# Altium schematic symbol library Driver_LED.SchLib: 84 symbols (part 2 of 2)
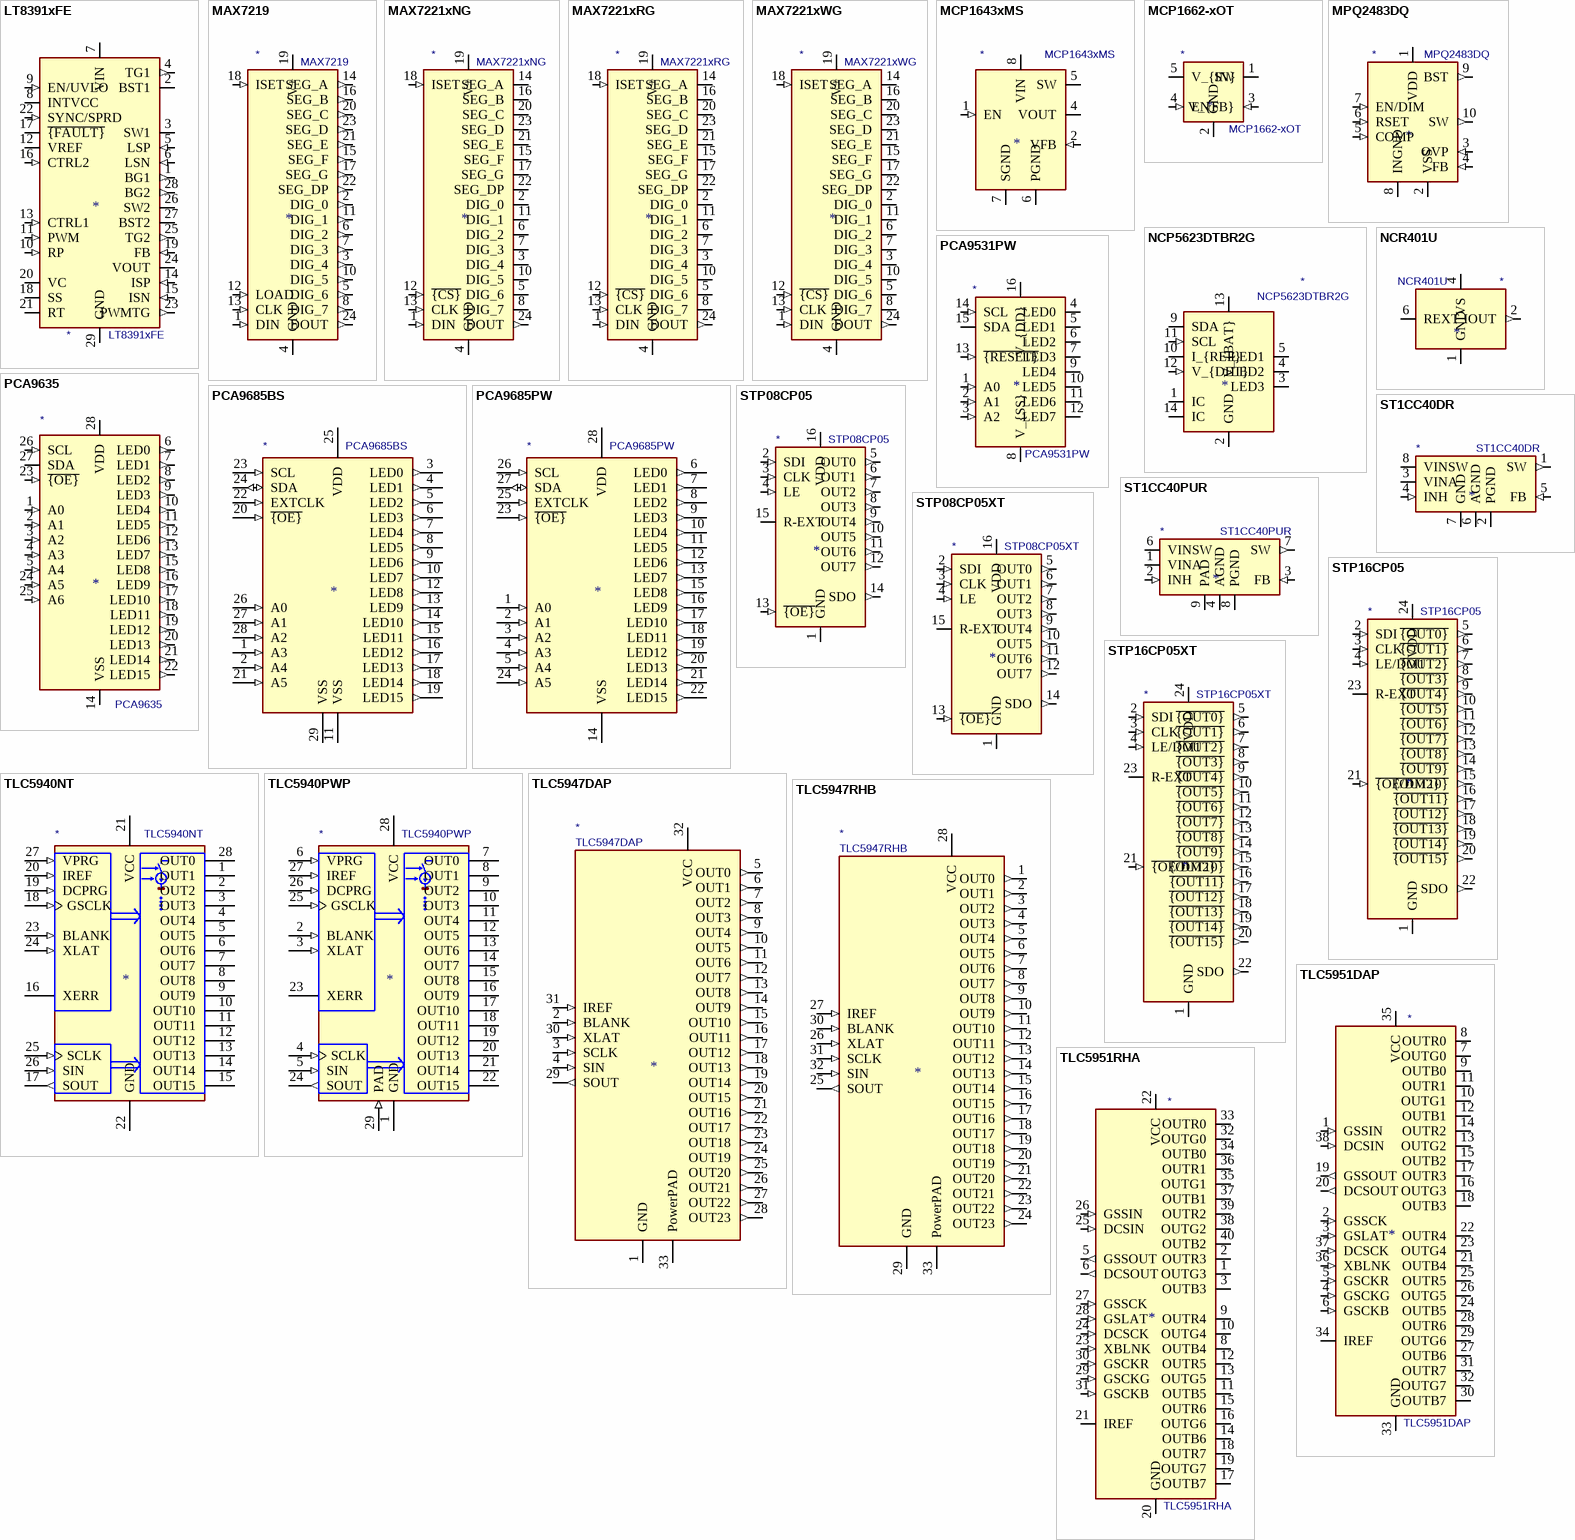
[diagram p4: symbols LT8391xFE to TLC5951RHA]

## TLC5951RHA
designator *  value TLC5951RHA
ki_keywords: led driver; ki_description: 24-Channel, 12-Bit PWM LED Driver With 7-Bit Dot Correction and 3-Group, 8-Bit Global Brightness Control, Texas S-PVQFN-N40; ki_fp_filters: Texas*S*PVQFN*; Footprint: Package_DFN_QFN:Texas_S-PVQFN-N40_EP4.15x4.15mm_ThermalVias; Supplier: http://www.ti.com/lit/ds/symlink/tlc5951.pdf
footprint Texas_S-PVQFN-N40_EP4.15x4.15mm_ThermalVias
pins: 1 OUTG3 (oc), 2 OUTR3 (oc), 3 OUTB3 (oc), 4 NC (in) hidden, 5 GSSOUT (out), 6 DCSOUT (out), 7 NC (in) hidden, 8 OUTB4 (oc), 9 OUTR4 (oc), 10 OUTG4 (oc), 11 OUTB5 (oc), 12 OUTR5 (oc), 13 OUTG5 (oc), 14 OUTB6 (oc), 15 OUTR6 (oc), 16 OUTG6 (oc), 17 OUTB7 (oc), 18 OUTR7 (oc), 19 OUTG7 (oc), 20 GND (power), 21 IREF, 22 VCC (power), 23 XBLNK (in), 24 DCSCK (in), 25 DCSIN (in), 26 GSSIN (in), 27 GSSCK (in), 28 GSLAT (in), 29 GSCKG (in), 30 GSCKR (in), 31 GSCKB (in), 32 OUTG0 (oc), 33 OUTR0 (oc), 34 OUTB0 (oc), 35 OUTG1 (oc), 36 OUTR1 (oc), 37 OUTB1 (oc), 38 OUTG2 (oc), 39 OUTR2 (oc), 40 OUTB2 (oc), 41 GND hidden

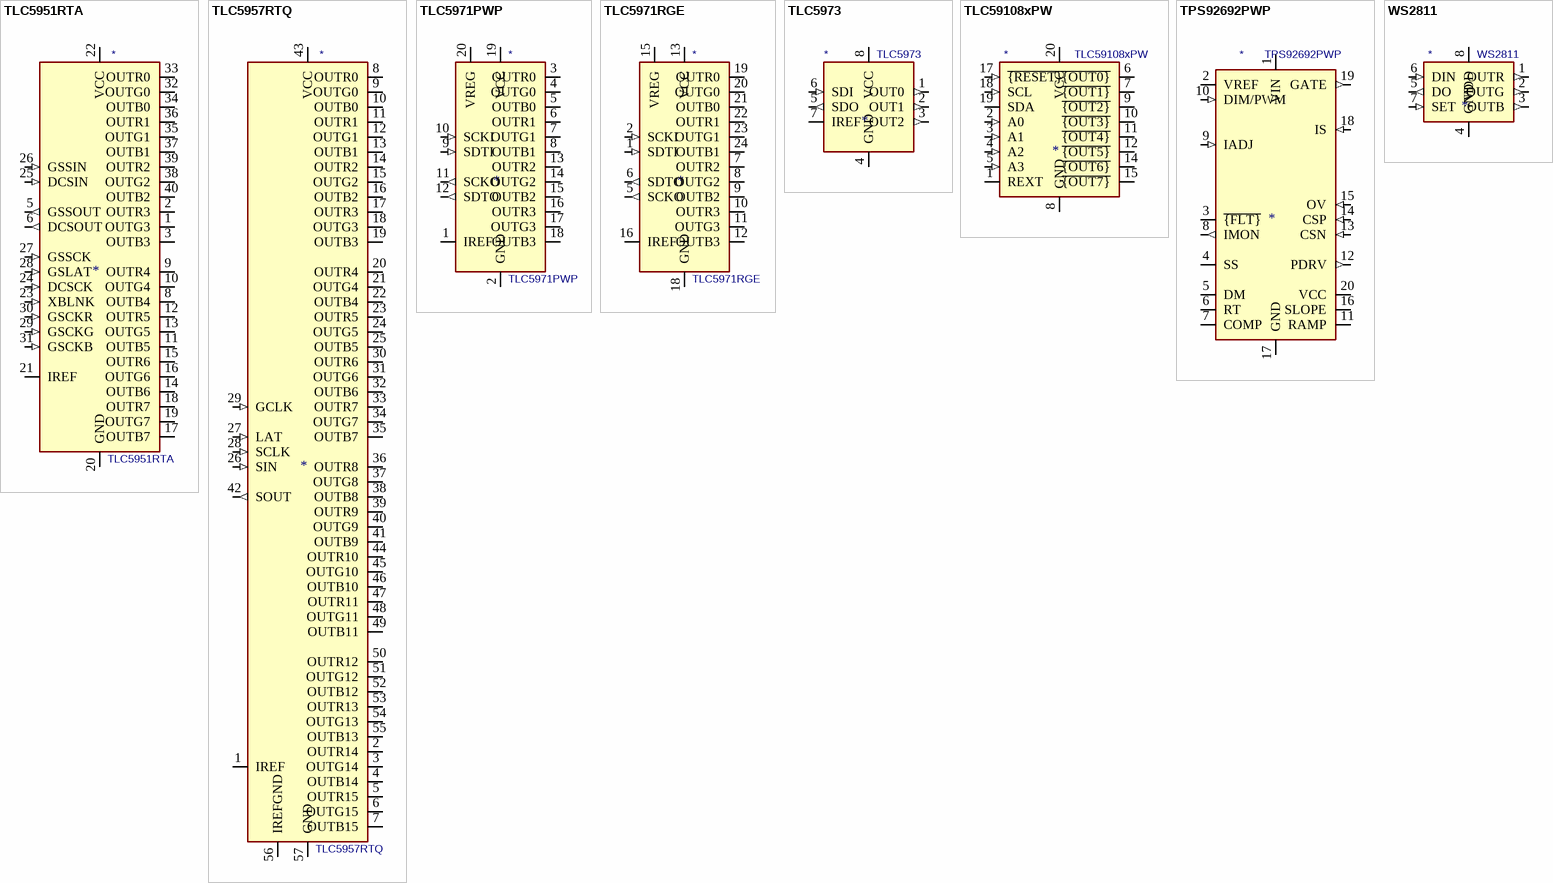
[diagram p3: symbols TLC5951RTA to WS2811]

## TLC5951RTA
designator *  value TLC5951RTA
ki_keywords: led driver; ki_description: 24-Channel, 12-Bit PWM LED Driver With 7-Bit Dot Correction and 3-Group, 8-Bit Global Brightness Control, Texas S-PVQFN-N40; ki_fp_filters: Texas*S*PVQFN*; Footprint: Package_DFN_QFN:Texas_S-PVQFN-N40_EP4.15x4.15mm_ThermalVias; Supplier: http://www.ti.com/lit/ds/symlink/tlc5951.pdf
footprint Texas_S-PVQFN-N40_EP4.15x4.15mm_ThermalVias
pins: 1 OUTG3 (oc), 2 OUTR3 (oc), 3 OUTB3 (oc), 4 NC (in) hidden, 5 GSSOUT (out), 6 DCSOUT (out), 7 NC (in) hidden, 8 OUTB4 (oc), 9 OUTR4 (oc), 10 OUTG4 (oc), 11 OUTB5 (oc), 12 OUTR5 (oc), 13 OUTG5 (oc), 14 OUTB6 (oc), 15 OUTR6 (oc), 16 OUTG6 (oc), 17 OUTB7 (oc), 18 OUTR7 (oc), 19 OUTG7 (oc), 20 GND (power), 21 IREF, 22 VCC (power), 23 XBLNK (in), 24 DCSCK (in), 25 DCSIN (in), 26 GSSIN (in), 27 GSSCK (in), 28 GSLAT (in), 29 GSCKG (in), 30 GSCKR (in), 31 GSCKB (in), 32 OUTG0 (oc), 33 OUTR0 (oc), 34 OUTB0 (oc), 35 OUTG1 (oc), 36 OUTR1 (oc), 37 OUTB1 (oc), 38 OUTG2 (oc), 39 OUTR2 (oc), 40 OUTB2 (oc), 41 GND hidden

## TLC5957RTQ
designator *  value TLC5957RTQ
ki_keywords: led driver; ki_description: 48-channel, 16bit ES-PWM LED driver with Pre-charge FET, LED OPEN Detection and Caterpillar Cancelling, QFN-56; ki_fp_filters: QFN*1EP*8x8mm*P0.5mm*; Footprint: Package_DFN_QFN:QFN-56-1EP_8x8mm_P0.5mm_EP5.6x5.6mm_ThermalVias; Supplier: http://www.ti.com/lit/ds/symlink/tlc5957.pdf
footprint QFN-56-1EP_8x8mm_P0.5mm_EP5.6x5.6mm_ThermalVias
pins: 1 IREF, 2 OUTR14 (oc), 3 OUTG14 (oc), 4 OUTB14 (oc), 5 OUTR15 (oc), 6 OUTG15 (oc), 7 OUTB15 (oc), 8 OUTR0 (oc), 9 OUTG0 (oc), 10 OUTB0 (oc), 11 OUTR1 (oc), 12 OUTG1 (oc), 13 OUTB1 (oc), 14 OUTR2 (oc), 15 OUTG2 (oc), 16 OUTB2 (oc), 17 OUTR3 (oc), 18 OUTG3 (oc), 19 OUTB3 (oc), 20 OUTR4 (oc), 21 OUTG4 (oc), 22 OUTB4 (oc), 23 OUTR5 (oc), 24 OUTG5 (oc), 25 OUTB5 (oc), 26 SIN (in), 27 LAT (in), 28 SCLK (in), 29 GCLK (in), 30 OUTR6 (oc), 31 OUTG6 (oc), 32 OUTB6 (oc), 33 OUTR7 (oc), 34 OUTG7 (oc), 35 OUTB7 (oc), 36 OUTR8 (oc), 37 OUTG8 (oc), 38 OUTB8 (oc), 39 OUTR9 (oc), 40 OUTG9 (oc), 41 OUTB9 (oc), 42 SOUT (out), 43 VCC (power), 44 OUTR10 (oc), 45 OUTG10 (oc), 46 OUTB10 (oc), 47 OUTR11 (oc), 48 OUTG11 (oc), 49 OUTB11 (oc), 50 OUTR12 (oc), 51 OUTG12 (oc), 52 OUTB12 (oc), 53 OUTR13 (oc), 54 OUTG13 (oc), 55 OUTB13 (oc), 56 IREFGND (power), 57 GND (power)

## TLC5971PWP
designator *  value TLC5971PWP
ki_keywords: led driver; ki_description: 12-Channel, 16-Bit, Enhanced Spectrum, PWM, RGB, LED Driver With 3.3-V Linear Regulator, HTSSOP-20; ki_fp_filters: HTSSOP*1EP*4.4x6.5mm*P0.65mm*; Footprint: Package_SO:HTSSOP-20-1EP_4.4x6.5mm_P0.65mm_EP3.4x6.5mm_Mask2.75x3.43mm_ThermalVias; Supplier: http://www.ti.com/lit/ds/symlink/tlc5971.pdf
footprint HTSSOP-20-1EP_4.4x6.5mm_P0.65mm_EP3.4x6.5mm_Mask2.75x3.43mm_ThermalVias
pins: 1 IREF, 2 GND (power), 3 OUTR0 (oc), 4 OUTG0 (oc), 5 OUTB0 (oc), 6 OUTR1 (oc), 7 OUTG1 (oc), 8 OUTB1 (oc), 9 SDTI (in), 10 SCKI (in), 11 SCKO (out), 12 SDTO (out), 13 OUTR2 (oc), 14 OUTG2 (oc), 15 OUTB2 (oc), 16 OUTR3 (oc), 17 OUTG3 (oc), 18 OUTB3 (oc), 19 VCC (power), 20 VREG, 21 GND hidden

## TLC5971RGE
designator *  value TLC5971RGE
ki_keywords: led driver; ki_description: 12-Channel, 16-Bit, Enhanced Spectrum, PWM, RGB, LED Driver With 3.3-V Linear Regulator, VQFN-24; ki_fp_filters: Texas*RGE0024H*; Footprint: Package_DFN_QFN:Texas_RGE0024H_EP2.7x2.7mm_ThermalVias; Supplier: http://www.ti.com/lit/ds/symlink/tlc5971.pdf
footprint Texas_RGE0024H_EP2.7x2.7mm_ThermalVias
pins: 1 SDTI (in), 2 SCKI (in), 3 NC (in) hidden, 4 NC (in) hidden, 5 SCKO (out), 6 SDTO (out), 7 OUTR2 (oc), 8 OUTG2 (oc), 9 OUTB2 (oc), 10 OUTR3 (oc), 11 OUTG3 (oc), 12 OUTB3 (oc), 13 VCC (power), 14 NC (in) hidden, 15 VREG, 16 IREF, 17 NC (in) hidden, 18 GND (power), 19 OUTR0 (oc), 20 OUTG0 (oc), 21 OUTB0 (oc), 22 OUTR1 (oc), 23 OUTG1 (oc), 24 OUTB1 (oc), 25 GND hidden

## TLC5973
designator *  value TLC5973
ki_keywords: LED current driver 12bit PWM; ki_description: 3 Channel 12bit PWM constant currend LED Driver with single wire interface; ki_fp_filters: SOIC*3.9x4.9mm*P1.27mm*; Footprint: Package_SO:SOIC-8_3.9x4.9mm_P1.27mm; Supplier: http://www.ti.com/lit/ds/symlink/tlc5973.pdf
footprint SOIC-8_3.9x4.9mm_P1.27mm
pins: 1 OUT0 (out), 2 OUT1 (out), 3 OUT2 (out), 4 GND (power), 5 SDO (out), 6 SDI (in), 7 IREF (io), 8 VCC (power)

## TLC59108xPW
designator *  value TLC59108xPW
ki_keywords: LED current driver; ki_description: 8-Channel, 8-Bit Fm+ I2C-Bus Constant-Current LED Sink Driver, TSSOP-20; ki_fp_filters: TSSOP*4.4x6.5mm*P0.65mm*; Footprint: Package_SO:TSSOP-20_4.4x6.5mm_P0.65mm; Supplier: https://www.ti.com/lit/ds/symlink/tlc59108.pdf
footprint TSSOP-20_4.4x6.5mm_P0.65mm
pins: 1 REXT, 2 A0 (in), 3 A1 (in), 4 A2 (in), 5 A3 (in), 6 ~{{OUT0}} (oc), 7 ~{{OUT1}} (oc), 8 GND (power), 9 ~{{OUT2}} (oc), 10 ~{{OUT3}} (oc), 11 ~{{OUT4}} (oc), 12 ~{{OUT5}} (oc), 13 GND hidden, 14 ~{{OUT6}} (oc), 15 ~{{OUT7}} (oc), 16 GND hidden, 17 ~{{RESET}} (in), 18 SCL (in), 19 SDA (io), 20 VCC (power)

## TPS92692PWP
designator *  value TPS92692PWP
ki_keywords: LED Driver Buck Boost Sepic Flyback PWM Dimming; ki_description: LED Driver Buck Boost Sepic Flyback, Input 4.5-65V, with PWM Dimming, HTSSOP-20; ki_fp_filters: HTSSOP*1EP*4.4x6.5mm*P0.65mm*; Footprint: Package_SO:HTSSOP-20-1EP_4.4x6.5mm_P0.65mm_EP3.4x6.5mm_Mask2.4x3.7mm; Supplier: https://www.ti.com/lit/ds/symlink/tps92692-q1.pdf
footprint HTSSOP-20-1EP_4.4x6.5mm_P0.65mm_EP3.4x6.5mm_Mask2.4x3.7mm
pins: 1 VIN (power), 2 VREF (power), 3 ~{{FLT}} (oc), 4 SS, 5 DM, 6 RT, 7 COMP, 8 IMON (out), 9 IADJ (in), 10 DIM/PWM (in), 11 RAMP, 12 PDRV (out), 13 CSN (in), 14 CSP (in), 15 OV (in), 16 SLOPE, 17 GND (power), 18 IS (in), 19 GATE (out), 20 VCC (power), 21 GND hidden

## WS2811
designator *  value WS2811
ki_keywords: PWM LED driver; ki_description: 3-Channel 8-Bit PWM LED Driver, DIP-8/SOIC-8; ki_fp_filters: DIP*W7.62mm* SOIC*3.9x4.9mm*P1.27mm*; Supplier: https://cdn-shop.adafruit.com/datasheets/WS2811.pdf
pins: 1 OUTR (out), 2 OUTG (out), 3 OUTB (out), 4 GND (power), 5 DO (out), 6 DIN (in), 7 SET (in), 8 VDD (power)